# EAGLE library part MCU-CARD-MIKROE (library custom)
PIC18F87J60 on MCU CARD
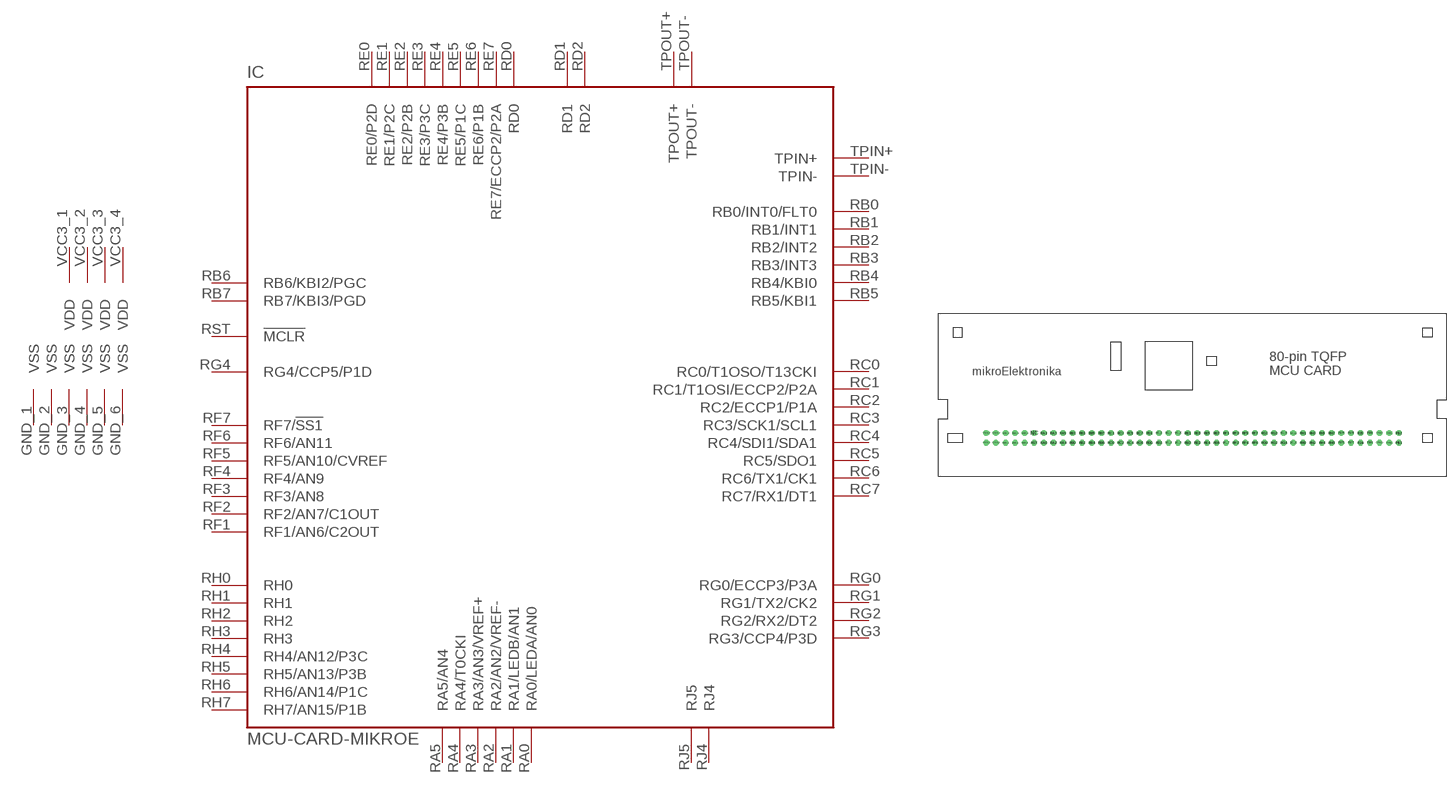
[diagram p4: symbol with the pads of LV18F; footprint LV18F]

Designator prefix IC

## MCU-CARD-MIKROE  [LV18F]
GND_1  VSS  pwr
GND_2  VSS  pwr
GND_3  VSS  pwr
GND_4  VSS  pwr
GND_5  VSS  pwr
GND_6  VSS  pwr
RA0  RA0/LEDA/AN0
RA1  RA1/LEDB/AN1
RA2  RA2/AN2/VREF-
RA3  RA3/AN3/VREF+
RA4  RA4/T0CKI
RA5  RA5/AN4
RB0  RB0/INT0/FLT0
RB1  RB1/INT1
RB2  RB2/INT2
RB3  RB3/INT3
RB4  RB4/KBI0
RB5  RB5/KBI1
RB6  RB6/KBI2/PGC
RB7  RB7/KBI3/PGD
RC0  RC0/T1OSO/T13CKI
RC1  RC1/T1OSI/ECCP2/P2A
RC2  RC2/ECCP1/P1A
RC3  RC3/SCK1/SCL1
RC4  RC4/SDI1/SDA1
RC5  RC5/SDO1
RC6  RC6/TX1/CK1
RC7  RC7/RX1/DT1
RD0  RD0
RD1  RD1
RD2  RD2
RE0  RE0/P2D
RE1  RE1/P2C
RE2  RE2/P2B
RE3  RE3/P3C
RE4  RE4/P3B
RE5  RE5/P1C
RE6  RE6/P1B
RE7  RE7/ECCP2/P2A
RF1  RF1/AN6/C2OUT
RF2  RF2/AN7/C1OUT
RF3  RF3/AN8
RF4  RF4/AN9
RF5  RF5/AN10/CVREF
RF6  RF6/AN11
RF7  RF7/!SS1
RG0  RG0/ECCP3/P3A
RG1  RG1/TX2/CK2
RG2  RG2/RX2/DT2
RG3  RG3/CCP4/P3D
RG4  RG4/CCP5/P1D
RH0  RH0
RH1  RH1
RH2  RH2
RH3  RH3
RH4  RH4/AN12/P3C
RH5  RH5/AN13/P3B
RH6  RH6/AN14/P1C
RH7  RH7/AN15/P1B
RJ4  RJ4
RJ5  RJ5
RST  !MCLR  in
TPIN+  TPIN+  in
TPIN-  TPIN-  in
TPOUT+  TPOUT+  out
TPOUT-  TPOUT-  out
VCC3_1  VDD  pwr
VCC3_2  VDD  pwr
VCC3_3  VDD  pwr
VCC3_4  VDD  pwr

## Footprint LV18F (pad centres in mm)
80-pin TQFP MCU Card
drill 1 octagon: GND_1 5.08,0; GND_2 7.62,0; GND_3 10.16,0; GND_4 5.08,2.54; GND_5 7.62,2.54; GND_6 10.16,2.54; NC 12.7,2.54; NC_2 45.72,2.54; NC_3 48.26,0; NC_4 48.26,2.54; NC_5 50.8,0; NC_6 50.8,2.54; NC_7 63.5,0; NC_8 78.74,2.54; NC_9 81.28,0; NC_10 81.28,2.54; P$1 109.22,0; P$2 109.22,2.54; P$75 93.98,0; P$76 93.98,2.54; P$77 96.52,0; P$78 96.52,2.54; P$81 101.6,0; P$82 101.6,2.54; RA0 15.24,0; RA1 15.24,2.54; RA2 17.78,0; RA3 17.78,2.54; RA4 20.32,0; RA5 20.32,2.54; RB0 22.86,0; RB1 22.86,2.54; RB2 25.4,0; RB3 25.4,2.54; RB4 27.94,0; RB5 27.94,2.54; RB6 30.48,0; RB7 30.48,2.54; RC0 33.02,0; RC1 33.02,2.54; RC2 35.56,0; RC3 35.56,2.54; RC4 38.1,0; RC5 38.1,2.54; RC6 40.64,0; RC7 40.64,2.54; RD0 43.18,0; RD1 43.18,2.54; RD2 45.72,0; RE0 53.34,0; RE1 53.34,2.54; RE2 55.88,0; RE3 55.88,2.54; RE4 58.42,0; RE5 58.42,2.54; RE6 60.96,0; RE7 60.96,2.54; RF1 63.5,2.54; RF2 66.04,0; RF3 66.04,2.54; RF4 68.58,0; RF5 68.58,2.54; RF6 71.12,0; RF7 71.12,2.54; RG0 73.66,0; RG1 73.66,2.54; RG2 76.2,0; RG3 76.2,2.54; RG4 78.74,0; RH0 83.82,0; RH1 83.82,2.54; RH2 86.36,0; RH3 86.36,2.54; RH4 88.9,0; RH5 88.9,2.54; RH6 91.44,0; RH7 91.44,2.54; RJ4 99.06,0; RJ5 99.06,2.54; RST 12.7,0; TPIN+ 106.68,0; TPIN- 106.68,2.54; TPOUT+ 104.14,0; TPOUT- 104.14,2.54; VCC3_1 0,0; VCC3_2 2.54,0; VCC3_3 0,2.54; VCC3_4 2.54,2.54